# EAGLE library part LT3652 (library OSSIdonghee)
LT3652 Battery Charger Power Tracking 2A Battery Charger for Solar Power e Input Voltage Range: 4.95V to 32V (40V Abs Max) Programmable Charge Rate Up to 2A Programmable Float Voltage Up to 14.4V 1MHz Fixed Frequency
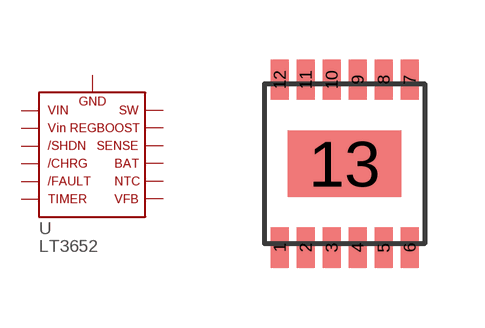
[diagram p20: symbol with the pads of MSE; footprint MSE]

Designator prefix U

## LT3652  [MSE]
1  P$1  pwr
2  P$2  in
3  P$3  in
4  P$4  out
5  P$5  out
6  P$6  in
7  P$7  in
8  P$8  in
9  P$9  in
10  P$10  in
11  P$11  in
12  P$12  out
13  P$13

## Footprint MSE (pad centres in mm)
smd 0.45 x 1: 1 -1.625,-2.1; 2 -0.975,-2.1; 3 -0.325,-2.1; 4 0.325,-2.1; 5 0.975,-2.1; 6 1.625,-2.1; 7 1.625,2.1; 8 0.975,2.1; 9 0.325,2.1; 10 -0.325,2.1; 11 -0.975,2.1; 12 -1.625,2.1
smd 2.845 x 1.65: 13 0,0